# Altium footprint library PCB_COF_1.2.PcbLib: 26 footprints (part 1 of 2)
Each footprint in its own frame and in the unit in brackets; x right, y up, seen from the top. Pads: shape width x height; smd on the part's side, far side on the other; paste and mask are expansions set on the pad; w line width, h text height; cw(c..) or ccw(c..) is an arc to the next point about the centre after c.
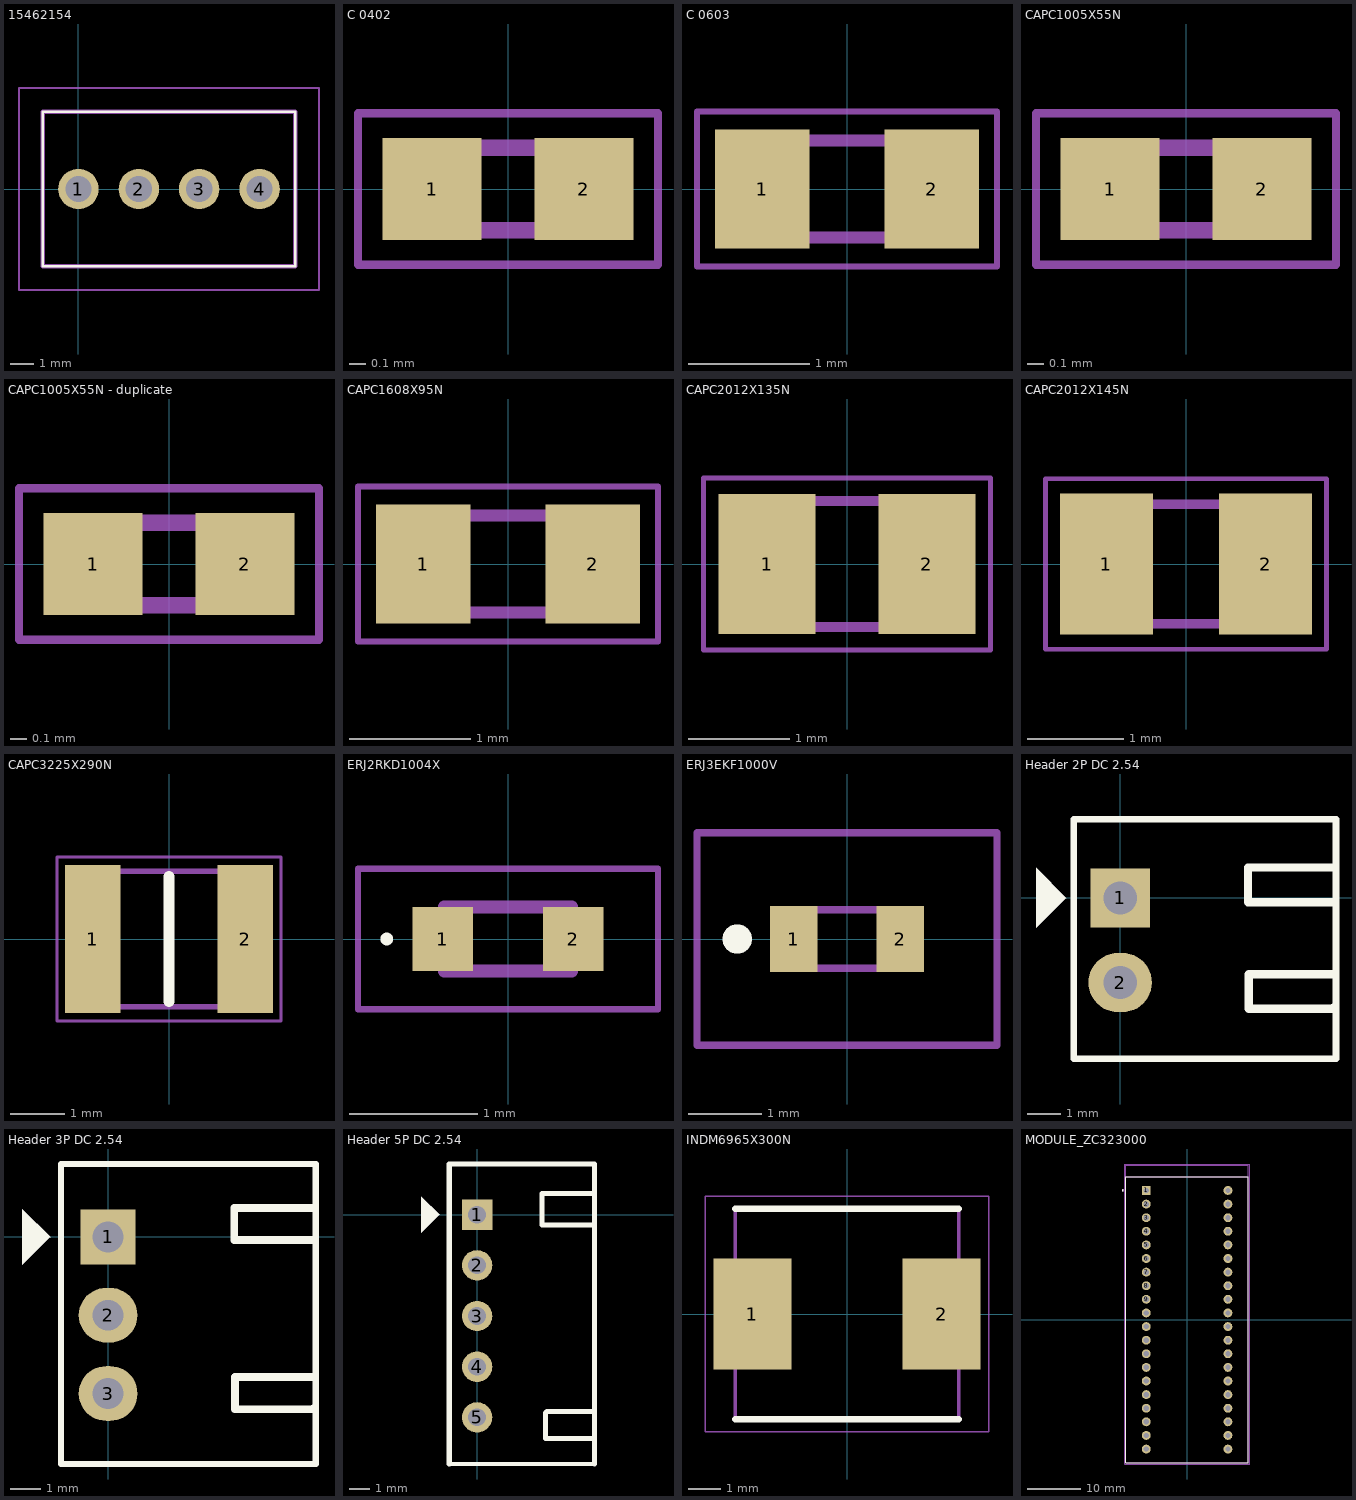
[diagram p0: the footprints below, top view; thin cyan lines are the x and y axes]

## 15462154 [mm]
pads (4):
  round 1.7 hole 1.1: 1(0,0) 2(2.54,0) 3(5.08,0) 4(7.62,0)
Top Overlay:
  lines w0.1: -1.5,-3.25 -1.5,3.25 9.12,3.25 9.12,-3.25 -1.5,-3.25
Mechanical 15:
  lines w0.2: -1.5,-3.25 -1.5,3.25 9.12,3.25 9.12,-3.25 -1.5,-3.25
Mechanical 16:
  lines w0.1: -2.5,-4.25 -2.5,4.25 10.12,4.25 10.12,-4.25 -2.5,-4.25
3D body "1546215-4.stp": height 9.52, standoff -3.88, extent -1.5,-3.25 9.12,3.25

## C 0402 [mm]
pads (2):
  rect 0.6x0.62 smd mask+0.051: 1(-0.46,0) 2(0.46,0)
Mechanical 15:
  lines w0.1: -0.5,-0.25 -0.5,0.25 0.5,0.25 0.5,-0.25 -0.5,-0.25
Mechanical 16:
  lines w0.05: -0.91,-0.46 -0.91,0.46 0.91,0.46 0.91,-0.46 -0.91,-0.46
3D body "CC0402JRNPO9BN560.stp": height 0.55, standoff 0, extent -0.52,-0.28 0.53,0.27

## C 0603 [mm]
pads (2):
  rect 0.78x0.98 smd mask+0.051: 1(-0.7,0) 2(0.7,0)
Mechanical 15:
  lines w0.1: -0.8,-0.4 -0.8,0.4 0.8,0.4 0.8,-0.4 -0.8,-0.4
Mechanical 16:
  lines w0.05: -1.24,-0.64 -1.24,0.64 1.24,0.64 1.24,-0.64 -1.24,-0.64
3D body "C0603C104K8RACTU_1K.stp": height 0.87, standoff 0, extent -0.87,-0.48 0.88,0.47

## CAPC1005X55N [mm]
pads (2):
  rect 0.6x0.62 smd mask+0.051: 1(-0.46,0) 2(0.46,0)
Mechanical 15:
  lines w0.1: -0.5,-0.25 -0.5,0.25 0.5,0.25 0.5,-0.25 -0.5,-0.25
Mechanical 16:
  lines w0.05: -0.91,-0.46 -0.91,0.46 0.91,0.46 0.91,-0.46 -0.91,-0.46
3D body "CC0402JRNPO9BN560.stp": height 0.55, standoff 0, extent -0.52,-0.28 0.53,0.27

## CAPC1005X55N - duplicate [mm]
pads (2):
  rect 0.6x0.62 smd: 1(-0.46,0) 2(0.46,0)
Mechanical 15:
  lines w0.1: -0.5,-0.25 0.5,-0.25 0.5,0.25 -0.5,0.25 -0.5,-0.25
Mechanical 16:
  lines w0.05: -0.91,-0.46 0.91,-0.46 0.91,0.46 -0.91,0.46 -0.91,-0.46
3D body "CC0402JRNPO9BN560.stp": height 0.55, standoff 0, extent -0.52,-0.28 0.53,0.27

## CAPC1608X95N [mm]
pads (2):
  rect 0.78x0.98 smd: 1(-0.7,0) 2(0.7,0)
Mechanical 15:
  lines w0.1: -0.8,-0.4 -0.8,0.4 0.8,0.4 0.8,-0.4 -0.8,-0.4
Mechanical 16:
  lines w0.05: -1.24,-0.64 -1.24,0.64 1.24,0.64 1.24,-0.64 -1.24,-0.64
3D body "C0603C104K8RACTU_1K.stp": height 0.87, standoff 0, extent -0.87,-0.48 0.88,0.47

## CAPC2012X135N [mm]
pads (2):
  rect 0.96x1.39 smd: 1(-0.79,0) 2(0.79,0)
Mechanical 15:
  lines w0.1: -1,-0.625 -1,0.625 1,0.625 1,-0.625 -1,-0.625
Mechanical 16:
  lines w0.05: -1.42,-0.85 -1.42,0.85 1.42,0.85 1.42,-0.85 -1.42,-0.85
3D body "GMK212BJ104KGHT.stp": height 1.35, standoff 0, extent -1,-0.625 1,0.625

## CAPC2012X145N [mm]
pads (2):
  rect 0.97x1.47 smd: 1(-0.83,0) 2(0.83,0)
Mechanical 15:
  lines w0.1: -1,-0.625 1,-0.625 1,0.625 -1,0.625 -1,-0.625
Mechanical 16:
  lines w0.05: -1.465,-0.89 1.465,-0.89 1.465,0.89 -1.465,0.89 -1.465,-0.89
3D body "GRM21BC60J226ME15L.stp": height 1.45, standoff 0, extent -1,-0.625 1,0.625

## CAPC3225X290N [mm]
pads (2):
  rect 1.02x2.72 smd: 1(-1.4,0) 2(1.4,0)
Top Overlay:
  lines w0.2: 0,-1.15 0,1.15
Mechanical 15:
  lines w0.1: -1.6,-1.25 1.6,-1.25 1.6,1.25 -1.6,1.25 -1.6,-1.25
Mechanical 16:
  lines w0.05: -2.06,-1.51 2.06,-1.51 2.06,1.51 -2.06,1.51 -2.06,-1.51
3D body "12105G106ZAT2A_500.stp": height 2.9, standoff 0, extent -1.6,-1.25 1.6,1.25

## ERJ2RKD1004X [mm]
pads (2):
  rect 0.475x0.5 smd: 1(-0.512,0) 2(0.512,0)
Top Overlay:
  lines w0.05: -0.95,-0.025 ccw(c-0.95,0) -0.95,0.025 ccw(c-0.95,0) -0.95,-0.025
Mechanical 15:
  lines w0.1: -0.5,-0.25 -0.5,0.25 0.5,0.25 0.5,-0.25 -0.5,-0.25
Mechanical 16:
  lines w0.05: -1.175,-0.55 -1.175,0.55 1.175,0.55 1.175,-0.55 -1.175,-0.55
3D body "ERJ2RKF1003X.stp": height 0.35, standoff 0, extent -0.5,-0.25 0.5,0.25

## ERJ3EKF1000V [mm]
pads (2):
  rect 0.65x0.9 smd: 1(-0.725,0) 2(0.725,0)
Top Overlay:
  lines w0.2: -1.5,-0.1 ccw(c-1.5,0) -1.5,0.1 ccw(c-1.5,0) -1.5,-0.1
Mechanical 15:
  lines w0.1: -0.8,-0.4 -0.8,0.4 0.8,0.4 0.8,-0.4 -0.8,-0.4
Mechanical 16:
  lines w0.1: -2.05,-1.45 -2.05,1.45 2.05,1.45 2.05,-1.45 -2.05,-1.45
3D body "ERJ-3GEYJ102V.stp": height 0.45, standoff 0, extent -0.8,-0.4 0.8,0.4

## Header 2P DC 2.54 [mil]
pads (2):
  rect 70x70 hole 39.37 unplated: 1(0,0)
  oval 75x70 hole 39.37 unplated: 2(0,-100)
Top Overlay:
  region: -99.5,35.5 -99.5,-35.5 -64.5,-0.5 -63.5,-0.5
  lines w7.87: -55,-190 -55,-111.25 -55,14.25 -55,93 255,93 255,-190 -55,-190
  lines w10: 151,34 cw(c152,34) 152,35 ; 251,36 151,36 151,-5 253,-5 ; 253,-131 cw(c253,-130) 252,-130 cw(c251,-130) 251,-131 152,-131 152,-90 254,-90
3D body "header 2 cong.stp": height 236.7, standoff 0.48, extent -50,-189.96 250,89.96

## Header 3P DC 2.54 [mil]
pads (3):
  rect 70x70 hole 39.37 unplated: 1(0,0)
  oval 75x70 hole 39.37 unplated: 2(0,-100) 3(0,-200)
Top Overlay:
  region: -109.5,35.5 -109.5,-35.5 -74.5,-0.5 -73.5,-0.5
  lines w7.87: -60,-290 -60,-256.06 -60,-228.19 -60,-184.25 -60,-12.75 -60,93 265,93 265,-290 -60,-290
  lines w10: 161,35 cw(c162,35) 162,36 ; 261,37 161,37 161,-4 263,-4 ; 263,-220 cw(c263,-219) 262,-219 cw(c261,-219) 261,-220 162,-220 162,-179 264,-179

## Header 5P DC 2.54 [mil]
pads (5):
  rect 60x60 hole 35: 1(0,0)
  round 60 hole 35: 2(0,-100) 3(0,-200) 4(0,-300) 5(0,-400)
Top Overlay:
  region: -110,35.5 -110,-35.5 -75,-0.5 -74,-0.5
  lines w7.87: -55,-492 232,-492
  lines w10: -55,-492 -55,100 232,100 232,-492 ; 231,-388 138,-388 135,-391 135,-442 232,-442 ; 231,-20 128,-20 128,42 232,42

## INDM6965X300N [mm]
pads (2):
  rect 2.4x3.4 smd: 1(-2.9,0) 2(2.9,0)
Top Overlay:
  lines w0.2: -3.43,-3.235 3.43,-3.235 ; -3.43,3.235 3.43,3.235
Mechanical 15:
  lines w0.1: -3.43,-3.235 3.43,-3.235 3.43,3.235 -3.43,3.235 -3.43,-3.235
Mechanical 16:
  lines w0.05: -4.35,-3.612 4.35,-3.612 4.35,3.612 -4.35,3.612 -4.35,-3.612
3D body "IHLP2525CZER4R7M01.stp": height 2.89, standoff 0, extent -3.542,-3.331 3.535,3.339

## MODULE_ZC323000 [mil]
pads (40):
  rect 65x65 hole 39.37: 1(-300,950)
  round 65 hole 39.37: 2(-300,850) 3(-300,750) 4(-300,650) 5(-300,550) 6(-300,450) 7(-300,350) 8(-300,250) 9(-300,150) 10(-300,50) 11(-300,-50) 12(-300,-150) 13(-300,-250) 14(-300,-350) 15(-300,-450) 16(-300,-550) 17(-300,-650) 18(-300,-750) 19(-300,-850) 20(-300,-950) 21(300,-950) 22(300,-850) 23(300,-750) 24(300,-650) 25(300,-550) 26(300,-450) 27(300,-350) 28(300,-250) 29(300,-150) 30(300,-50) 31(300,50) 32(300,150) 33(300,250) 34(300,350) 35(300,450) 36(300,550) 37(300,650) 38(300,750) 39(300,850) 40(300,950)
Top Overlay:
  circle w7.87: c-472.44,950 r3.94
  lines w5: -450,-1050 450,-1050 450,1050 -450,1050 -450,-1050
Mechanical 13:
  circle w7.87: c-472.44,950 r3.94
  lines w5: -450,1050 -450,-1050 450,-1050 450,1050 ; -450,1050 -450,1134.65 450,1134.65 450,1050 ; -450,1050 450,1050
Mechanical 15:
  lines w1.97: -459.84,-1059.84 459.84,-1059.84 459.84,1144.49 -459.84,1144.49 -459.84,-1059.84